# Altium integrated library Linear Technology Power Management uModule Regulators.IntLib: 166 symbols (part 15 of 67)
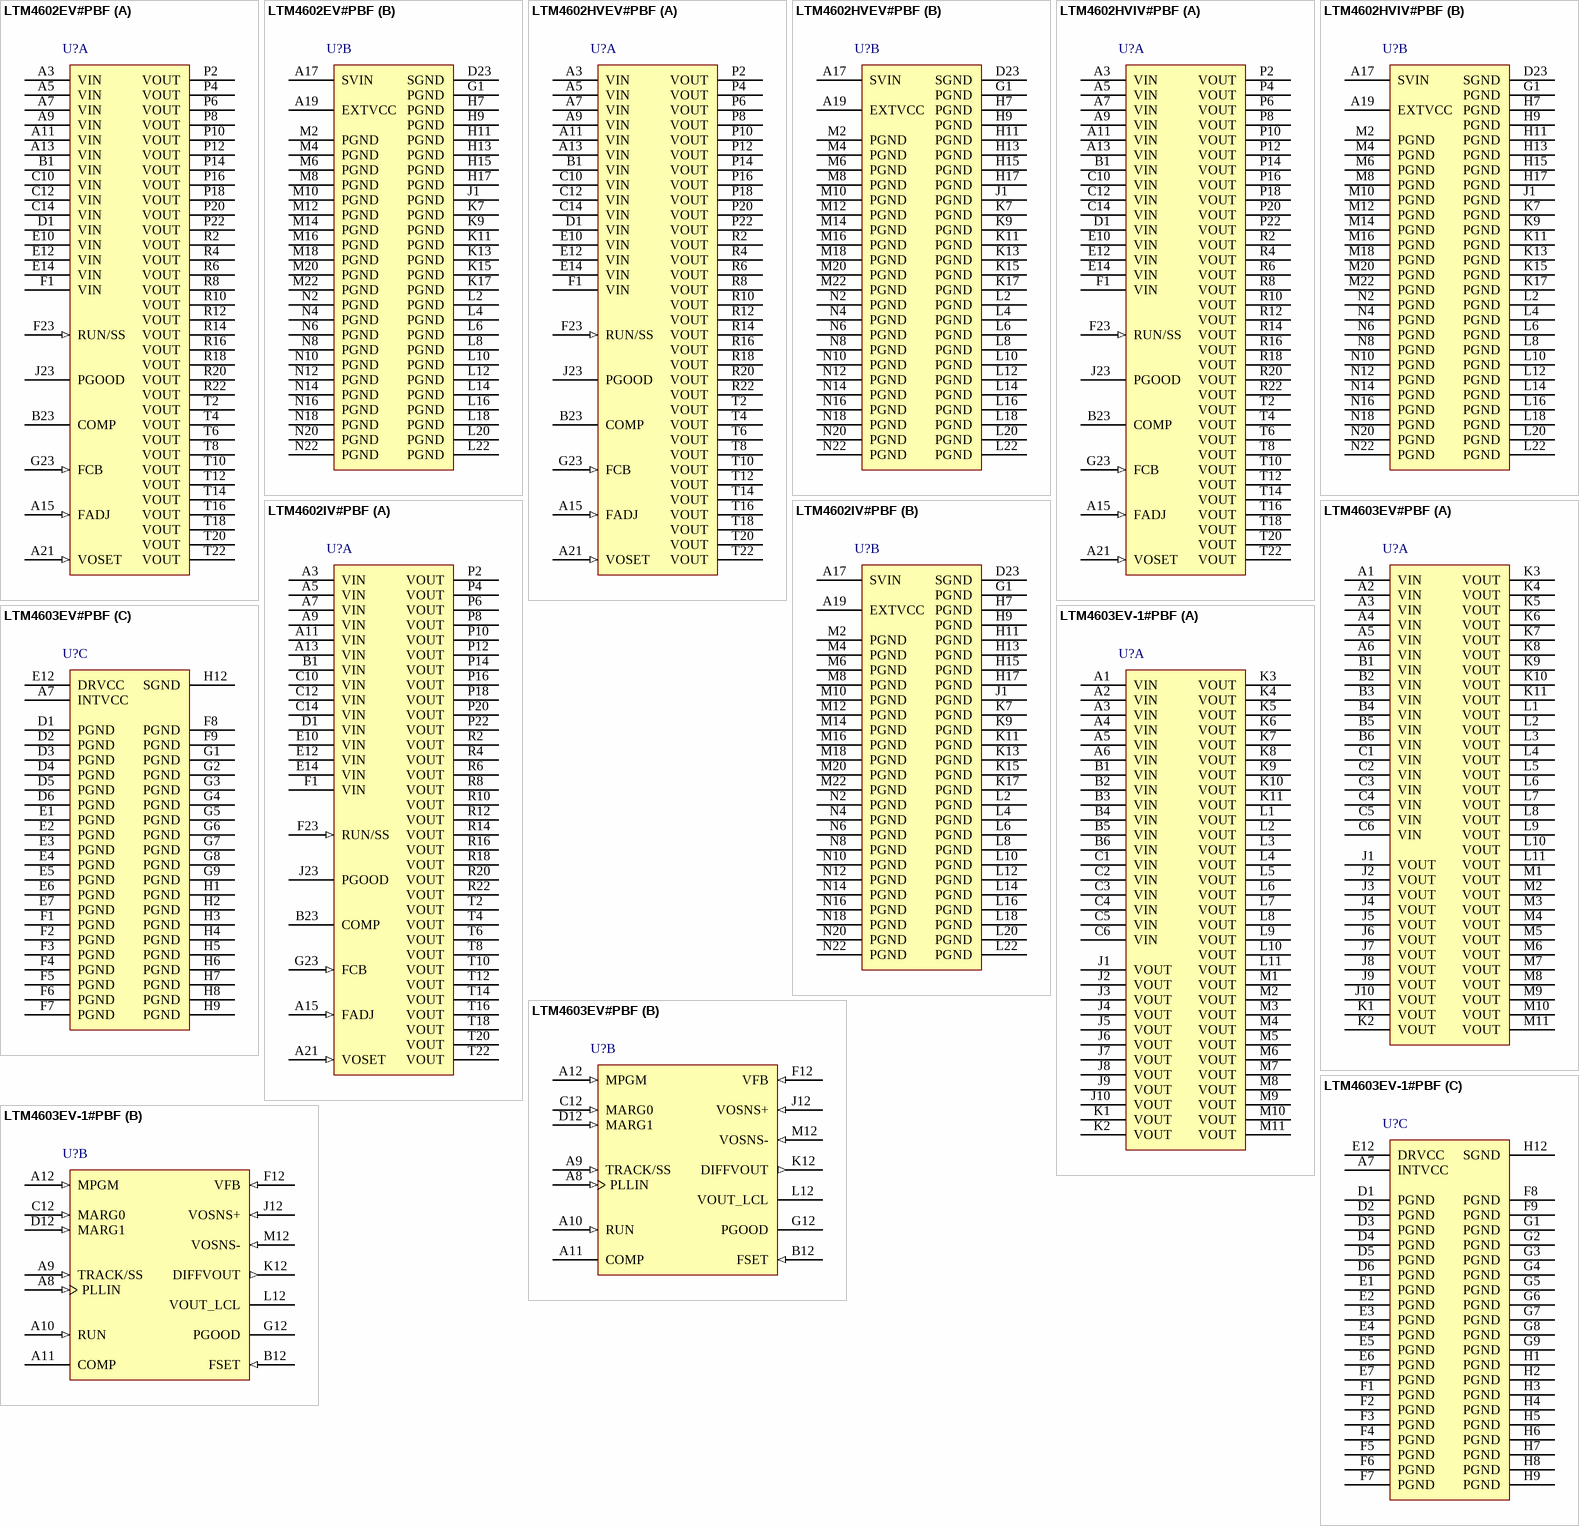
[diagram p41: symbols LTM4602EV#PBF to LTM4603EV-1#PBF]

## LTM4603EV-1#PBF
designator U?
20 V, 6 A DC/DC uModule Regulator with PLL, Output Tracking and Margining, 118-pin LGA, -40 to 85 degC, Pb-Free, Tray; Manufacturer: Linear Technology; PartNumber: LTM4603EV-1#PBF; Extended Temp: E, I; Frequency Sync Range: 700kHz - 1.3MHz; Frequency(kHz): 1000; Ishutdown(uA): 22; Isupply(mA): 3.8; Number of Outputs: 1; Output Current(A): 6; Switch Current(A): 9; Synchronous: yes; Topology: Buck; Vin Max(V): 20; Vin Min(V): 4.5; Vout Max(V): 5; Vout Min(V): 0.6; DatasheetVersion: Rev. B; PackageVersion: Rev. B, 01/2013; PackageReference: LGA-118; PackageDescription: 118-Pin LGA, Body 15 x 15 mm, Pitch 1.27 mm; Supplier 1: Digi-Key; Supplier Part Number 1: LTM4603EV-1#PBF-ND; Supplier 2: Farnell; Supplier Part Number 2: 1710870; Supplier 3: Newark; Supplier Part Number 3: 57M0665; Packing: Tray; RoHS: TRUE; Tracking: yes; Mounting Technology: Surface Mount; Code_JEDEC: MO-222; ComponentLink1Description: Manufacturer URL; ComponentLink1URL: http://www.linear.com/; ComponentLink2Description: Datasheet; ComponentLink2URL: http://cds.linear.com/docs/en/datasheet/4603fb.pdf; ComponentLink3Description: Package Specification; ComponentLink3URL: http://cds.linear.com/docs/en/packaging/05081801_B_lga118.pdf
footprint LT-LGA-118-15000X15000_V (LGA, 118-Leads, Body 15x15mm, 1.27mm)
part A pins: A1 VIN (power) "Power Input Pins. Apply input voltage between these pins and PGND pins. Recommend placing input decoupling capacitance directly between VIN pins and PGND pins.", A2 VIN (power) "Power Input Pins. Apply input voltage between these pins and PGND pins. Recommend placing input decoupling capacitance directly between VIN pins and PGND pins.", A3 VIN (power) "Power Input Pins. Apply input voltage between these pins and PGND pins. Recommend placing input decoupling capacitance directly between VIN pins and PGND pins.", A4 VIN (power) "Power Input Pins. Apply input voltage between these pins and PGND pins. Recommend placing input decoupling capacitance directly between VIN pins and PGND pins.", A5 VIN (power) "Power Input Pins. Apply input voltage between these pins and PGND pins. Recommend placing input decoupling capacitance directly between VIN pins and PGND pins.", A6 VIN (power) "Power Input Pins. Apply input voltage between these pins and PGND pins. Recommend placing input decoupling capacitance directly between VIN pins and PGND pins.", B1 VIN (power) "Power Input Pins. Apply input voltage between these pins and PGND pins. Recommend placing input decoupling capacitance directly between VIN pins and PGND pins.", B2 VIN (power) "Power Input Pins. Apply input voltage between these pins and PGND pins. Recommend placing input decoupling capacitance directly between VIN pins and PGND pins.", B3 VIN (power) "Power Input Pins. Apply input voltage between these pins and PGND pins. Recommend placing input decoupling capacitance directly between VIN pins and PGND pins.", B4 VIN (power) "Power Input Pins. Apply input voltage between these pins and PGND pins. Recommend placing input decoupling capacitance directly between VIN pins and PGND pins.", B5 VIN (power) "Power Input Pins. Apply input voltage between these pins and PGND pins. Recommend placing input decoupling capacitance directly between VIN pins and PGND pins.", B6 VIN (power) "Power Input Pins. Apply input voltage between these pins and PGND pins. Recommend placing input decoupling capacitance directly between VIN pins and PGND pins.", C1 VIN (power) "Power Input Pins. Apply input voltage between these pins and PGND pins. Recommend placing input decoupling capacitance directly between VIN pins and PGND pins.", C2 VIN (power) "Power Input Pins. Apply input voltage between these pins and PGND pins. Recommend placing input decoupling capacitance directly between VIN pins and PGND pins.", C3 VIN (power) "Power Input Pins. Apply input voltage between these pins and PGND pins. Recommend placing input decoupling capacitance directly between VIN pins and PGND pins.", C4 VIN (power) "Power Input Pins. Apply input voltage between these pins and PGND pins. Recommend placing input decoupling capacitance directly between VIN pins and PGND pins.", C5 VIN (power) "Power Input Pins. Apply input voltage between these pins and PGND pins. Recommend placing input decoupling capacitance directly between VIN pins and PGND pins.", C6 VIN (power) "Power Input Pins. Apply input voltage between these pins and PGND pins. Recommend placing input decoupling capacitance directly between VIN pins and PGND pins.", J1 VOUT (power) "Power Output Pins. Apply output load between these pins and PGND pins. Recommend placing output decoupling capacitance directly between these pins and PGND pins.", J2 VOUT (power) "Power Output Pins. Apply output load between these pins and PGND pins. Recommend placing output decoupling capacitance directly between these pins and PGND pins.", J3 VOUT (power) "Power Output Pins. Apply output load between these pins and PGND pins. Recommend placing output decoupling capacitance directly between these pins and PGND pins.", J4 VOUT (power) "Power Output Pins. Apply output load between these pins and PGND pins. Recommend placing output decoupling capacitance directly between these pins and PGND pins.", J5 VOUT (power) "Power Output Pins. Apply output load between these pins and PGND pins. Recommend placing output decoupling capacitance directly between these pins and PGND pins.", J6 VOUT (power) "Power Output Pins. Apply output load between these pins and PGND pins. Recommend placing output decoupling capacitance directly between these pins and PGND pins.", J7 VOUT (power) "Power Output Pins. Apply output load between these pins and PGND pins. Recommend placing output decoupling capacitance directly between these pins and PGND pins.", J8 VOUT (power) "Power Output Pins. Apply output load between these pins and PGND pins. Recommend placing output decoupling capacitance directly between these pins and PGND pins.", J9 VOUT (power) "Power Output Pins. Apply output load between these pins and PGND pins. Recommend placing output decoupling capacitance directly between these pins and PGND pins.", J10 VOUT (power) "Power Output Pins. Apply output load between these pins and PGND pins. Recommend placing output decoupling capacitance directly between these pins and PGND pins.", K1 VOUT (power) "Power Output Pins. Apply output load between these pins and PGND pins. Recommend placing output decoupling capacitance directly between these pins and PGND pins.", K2 VOUT (power) "Power Output Pins. Apply output load between these pins and PGND pins. Recommend placing output decoupling capacitance directly between these pins and PGND pins.", K3 VOUT (power) "Power Output Pins. Apply output load between these pins and PGND pins. Recommend placing output decoupling capacitance directly between these pins and PGND pins.", K4 VOUT (power) "Power Output Pins. Apply output load between these pins and PGND pins. Recommend placing output decoupling capacitance directly between these pins and PGND pins.", K5 VOUT (power) "Power Output Pins. Apply output load between these pins and PGND pins. Recommend placing output decoupling capacitance directly between these pins and PGND pins.", K6 VOUT (power) "Power Output Pins. Apply output load between these pins and PGND pins. Recommend placing output decoupling capacitance directly between these pins and PGND pins.", K7 VOUT (power) "Power Output Pins. Apply output load between these pins and PGND pins. Recommend placing output decoupling capacitance directly between these pins and PGND pins.", K8 VOUT (power) "Power Output Pins. Apply output load between these pins and PGND pins. Recommend placing output decoupling capacitance directly between these pins and PGND pins.", K9 VOUT (power) "Power Output Pins. Apply output load between these pins and PGND pins. Recommend placing output decoupling capacitance directly between these pins and PGND pins.", K10 VOUT (power) "Power Output Pins. Apply output load between these pins and PGND pins. Recommend placing output decoupling capacitance directly between these pins and PGND pins.", K11 VOUT (power) "Power Output Pins. Apply output load between these pins and PGND pins. Recommend placing output decoupling capacitance directly between these pins and PGND pins.", L1 VOUT (power) "Power Output Pins. Apply output load between these pins and PGND pins. Recommend placing output decoupling capacitance directly between these pins and PGND pins.", L2 VOUT (power) "Power Output Pins. Apply output load between these pins and PGND pins. Recommend placing output decoupling capacitance directly between these pins and PGND pins.", L3 VOUT (power) "Power Output Pins. Apply output load between these pins and PGND pins. Recommend placing output decoupling capacitance directly between these pins and PGND pins.", L4 VOUT (power) "Power Output Pins. Apply output load between these pins and PGND pins. Recommend placing output decoupling capacitance directly between these pins and PGND pins.", L5 VOUT (power) "Power Output Pins. Apply output load between these pins and PGND pins. Recommend placing output decoupling capacitance directly between these pins and PGND pins.", L6 VOUT (power) "Power Output Pins. Apply output load between these pins and PGND pins. Recommend placing output decoupling capacitance directly between these pins and PGND pins.", L7 VOUT (power) "Power Output Pins. Apply output load between these pins and PGND pins. Recommend placing output decoupling capacitance directly between these pins and PGND pins.", L8 VOUT (power) "Power Output Pins. Apply output load between these pins and PGND pins. Recommend placing output decoupling capacitance directly between these pins and PGND pins.", L9 VOUT (power) "Power Output Pins. Apply output load between these pins and PGND pins. Recommend placing output decoupling capacitance directly between these pins and PGND pins.", L10 VOUT (power) "Power Output Pins. Apply output load between these pins and PGND pins. Recommend placing output decoupling capacitance directly between these pins and PGND pins.", L11 VOUT (power) "Power Output Pins. Apply output load between these pins and PGND pins. Recommend placing output decoupling capacitance directly between these pins and PGND pins.", M1 VOUT (power) "Power Output Pins. Apply output load between these pins and PGND pins. Recommend placing output decoupling capacitance directly between these pins and PGND pins.", M2 VOUT (power) "Power Output Pins. Apply output load between these pins and PGND pins. Recommend placing output decoupling capacitance directly between these pins and PGND pins.", M3 VOUT (power) "Power Output Pins. Apply output load between these pins and PGND pins. Recommend placing output decoupling capacitance directly between these pins and PGND pins.", M4 VOUT (power) "Power Output Pins. Apply output load between these pins and PGND pins. Recommend placing output decoupling capacitance directly between these pins and PGND pins.", M5 VOUT (power) "Power Output Pins. Apply output load between these pins and PGND pins. Recommend placing output decoupling capacitance directly between these pins and PGND pins.", M6 VOUT (power) "Power Output Pins. Apply output load between these pins and PGND pins. Recommend placing output decoupling capacitance directly between these pins and PGND pins.", M7 VOUT (power) "Power Output Pins. Apply output load between these pins and PGND pins. Recommend placing output decoupling capacitance directly between these pins and PGND pins.", M8 VOUT (power) "Power Output Pins. Apply output load between these pins and PGND pins. Recommend placing output decoupling capacitance directly between these pins and PGND pins.", M9 VOUT (power) "Power Output Pins. Apply output load between these pins and PGND pins. Recommend placing output decoupling capacitance directly between these pins and PGND pins.", M10 VOUT (power) "Power Output Pins. Apply output load between these pins and PGND pins. Recommend placing output decoupling capacitance directly between these pins and PGND pins.", M11 VOUT (power) "Power Output Pins. Apply output load between these pins and PGND pins. Recommend placing output decoupling capacitance directly between these pins and PGND pins."
part B pins: A8 PLLIN (in) "External Clock Synchronization Input to the Phase Detector. This pin is internally terminated to SGND with a 50k resistor. Apply a clock with a high level above 2V and below INTVCC. See the Applications Information section.", A9 TRACK/SS (in) "Output Voltage Tracking and Soft- Start Pin. When the module is confi gured as a master output, then a soft-start capacitor is placed on this pin to ground to control the master ramp rate.", A10 RUN (in) "Run Control Pin. A voltage above 1.9V will turn on the module, and when below 1V, will turn off the module.", A11 COMP "Current Control Threshold and Error Amplifier Compensation Point. The current comparator threshold increases with this control voltage.", A12 MPGM (in) "Programmable Margining Input.", B12 FSET (in) "Frequency Set Internally to 1MHz. An external resistor can be placed from this pin to ground to increase frequency. This pin can be decoupled with a 1000pF capacitor. See Applications Information for frequency adjustment.", C12 MARG0 (in) "This pin is the LSB logic input for the margining function. Together with the MARG1 pin it will determine if margin high, margin low or no margin state is applied. The pin has an internal pull-down resistor of 50k. See the (See Datasheet)", D12 MARG1 (in) "This pin is the MSB logic input for the margining function. Together with the MARG0 pin will determine if margin high, margin low or no margin state is applied. The pin has an internal pull-down resistor of 50k. See (See Datasheet)", F12 VFB (in) "The Negative Input of the Error Amplifier. Internally, this pin is connected to VOUT_LCL with a 60.4k precision resistor. Different output voltages can be programmed with an additional resistor between VFB and SGND pins. See (See Datasheet)", G12 PGOOD (oc) "Output Voltage Power Good Indicator. Open-drain logic output that is pulled to ground when the output voltage is not within +/-10% of the regulation point, after a 25us power bad mask timer expires.", J12 VOSNS+ (in) "(+) Input to the Remote Sense Amplifier. This pin connects to the output remote sense point. The remote sense amplifier is used for VOUT =< 3.3V. Tie to ground if not used.", K12 DIFFVOUT (out) "Output of the Remote Sense Amplifier. This pin connects to the VOUT_LCL pin. Leave floating if remote sense amplifier is not used.", L12 VOUT_LCL "VOUT connects directly to this pin to bypass the remote sense amplifier, or DIFFVOUT connects to this pin when remote sense amplifier is used.", M12 VOSNS- (in) "(-) Input to the Remote Sense Amplifier. This pin connects to the ground remote sense point. The remote sense amplifier is used for VOUT =< 3.3V. Tie to INTVCC if not used."
part C pins: A7 INTVCC (power) "This pin is for additional decoupling of the 5V internal regulator.", D1 PGND (power) "Power ground pins for both input and output returns.", D2 PGND (power) "Power ground pins for both input and output returns.", D3 PGND (power) "Power ground pins for both input and output returns.", D4 PGND (power) "Power ground pins for both input and output returns.", D5 PGND (power) "Power ground pins for both input and output returns.", D6 PGND (power) "Power ground pins for both input and output returns.", E1 PGND (power) "Power ground pins for both input and output returns.", E2 PGND (power) "Power ground pins for both input and output returns.", E3 PGND (power) "Power ground pins for both input and output returns.", E4 PGND (power) "Power ground pins for both input and output returns.", E5 PGND (power) "Power ground pins for both input and output returns.", E6 PGND (power) "Power ground pins for both input and output returns.", E7 PGND (power) "Power ground pins for both input and output returns.", E12 DRVCC (power) "This pin normally connects to INTVCC for powering the internal MOSFET drivers. This pin can be biased up to 6V from an external supply with about 50mA capability, or an external circuit shown in Figure 16. This improves (See Datasheet)", F1 PGND (power) "Power ground pins for both input and output returns.", F2 PGND (power) "Power ground pins for both input and output returns.", F3 PGND (power) "Power ground pins for both input and output returns.", F4 PGND (power) "Power ground pins for both input and output returns.", F5 PGND (power) "Power ground pins for both input and output returns.", F6 PGND (power) "Power ground pins for both input and output returns.", F7 PGND (power) "Power ground pins for both input and output returns.", F8 PGND (power) "Power ground pins for both input and output returns.", F9 PGND (power) "Power ground pins for both input and output returns.", G1 PGND (power) "Power ground pins for both input and output returns.", G2 PGND (power) "Power ground pins for both input and output returns.", G3 PGND (power) "Power ground pins for both input and output returns.", G4 PGND (power) "Power ground pins for both input and output returns.", G5 PGND (power) "Power ground pins for both input and output returns.", G6 PGND (power) "Power ground pins for both input and output returns.", G7 PGND (power) "Power ground pins for both input and output returns.", G8 PGND (power) "Power ground pins for both input and output returns.", G9 PGND (power) "Power ground pins for both input and output returns.", H1 PGND (power) "Power ground pins for both input and output returns.", H2 PGND (power) "Power ground pins for both input and output returns.", H3 PGND (power) "Power ground pins for both input and output returns.", H4 PGND (power) "Power ground pins for both input and output returns.", H5 PGND (power) "Power ground pins for both input and output returns.", H6 PGND (power) "Power ground pins for both input and output returns.", H7 PGND (power) "Power ground pins for both input and output returns.", H8 PGND (power) "Power ground pins for both input and output returns.", H9 PGND (power) "Power ground pins for both input and output returns.", H12 SGND (power) "Signal Ground. This pin connects to PGND at output capacitor point."

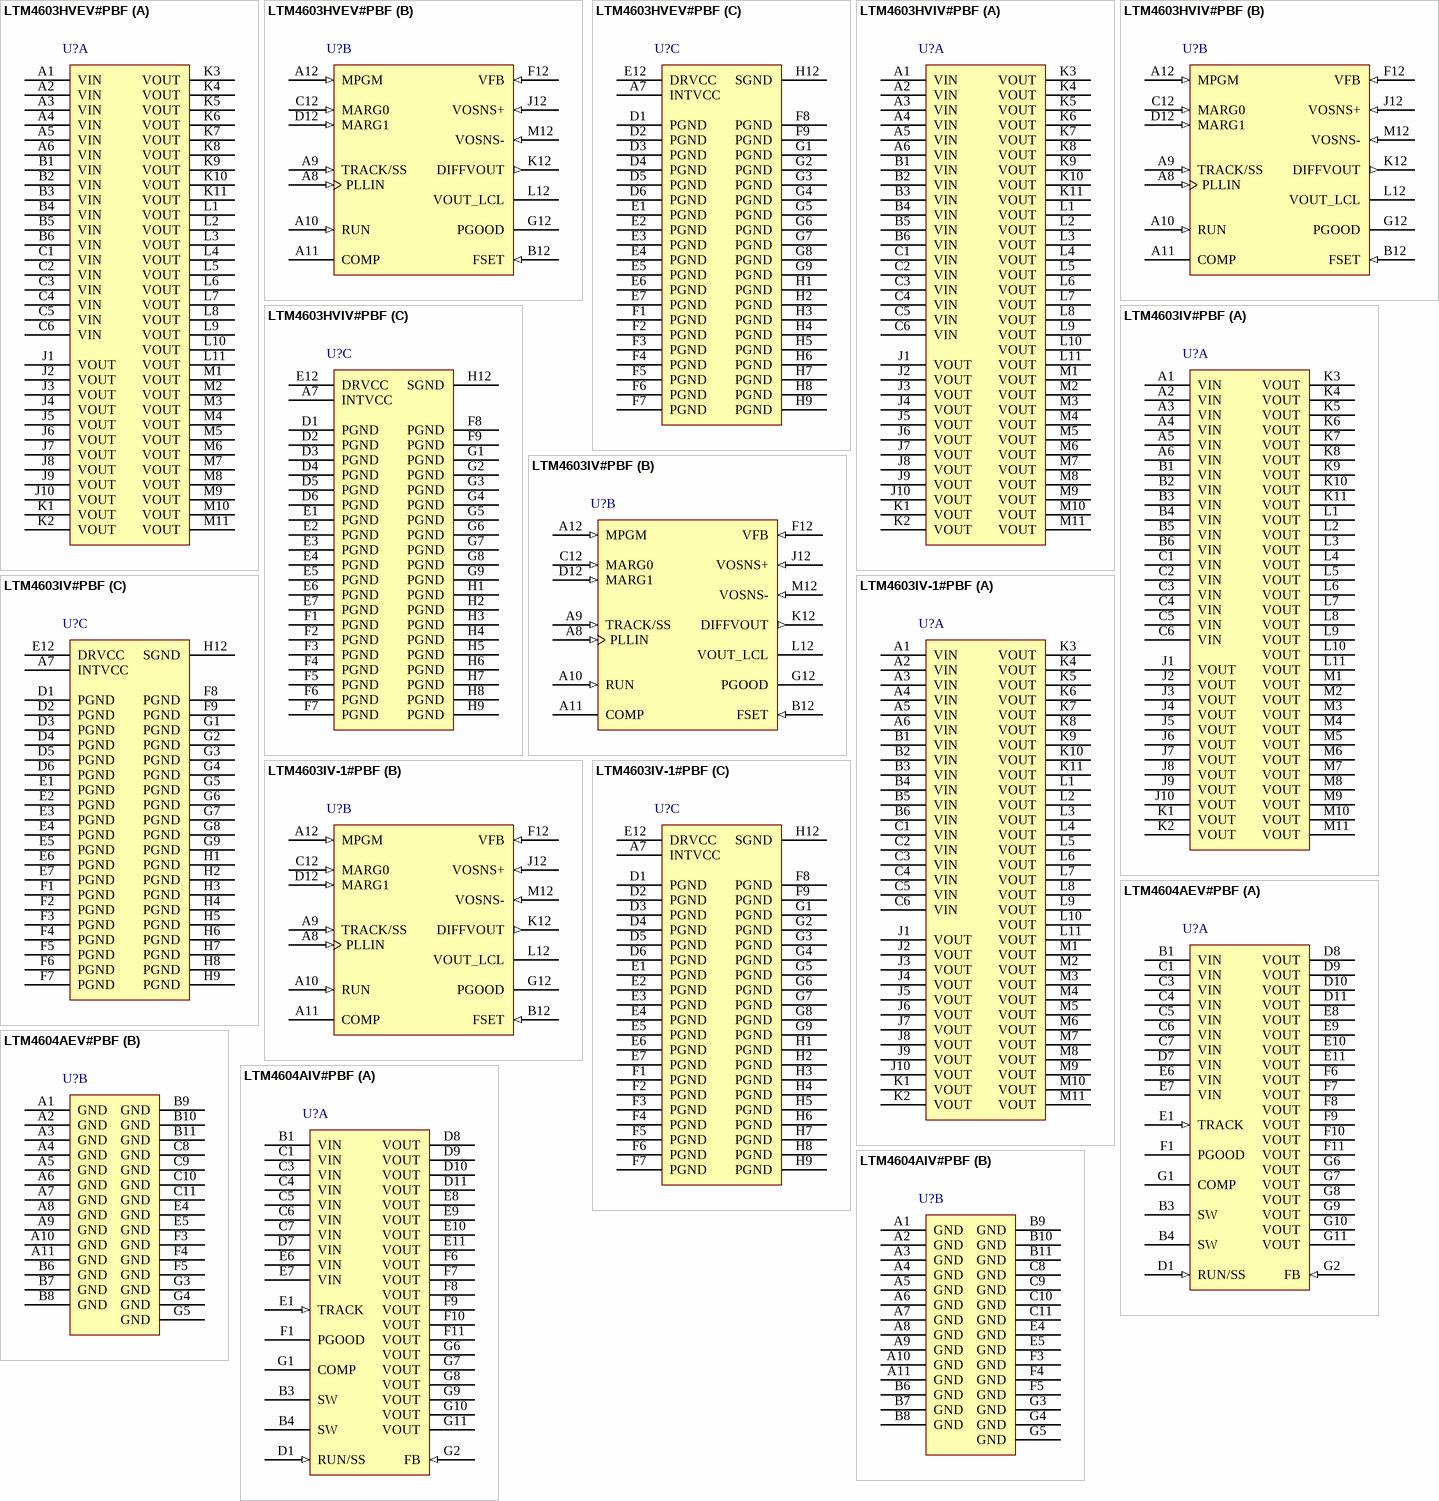
[diagram p6: symbols LTM4603HVEV#PBF to LTM4604AIV#PBF]

## LTM4603HVEV#PBF
designator U?
6 A, 28 VIN DC/DC uModule with PLL, Output Tracking and Margining, 118-pin LGA, -40 to 85 degC, Pb-Free, Tray; Manufacturer: Linear Technology; PartNumber: LTM4603HVEV#PBF; Extended Temp: E, I; Frequency Sync Range: 700kHz - 1.3MHz; Frequency(kHz): 1000; Ishutdown(uA): 22; Isupply(mA): 25; Number of Outputs: 1; Output Current(A): 6; Switch Current(A): 8; Synchronous: yes; Topology: Buck; Vin Max(V): 28; Vin Min(V): 4.5; Vout Max(V): 5; Vout Min(V): 0.6; PackageVersion: Rev. B, 01/2013; PackageReference: LGA-118; PackageDescription: 118-Pin LGA, Body 15 x 15 mm, Pitch 1.27 mm; Supplier 1: Digi-Key; Supplier Part Number 1: LTM4603HVEV#PBF-ND; Supplier 2: Farnell; Supplier Part Number 2: 1710881; Supplier 3: Newark; Supplier Part Number 3: 57M0667; Packing: Tray; RoHS: TRUE; Tracking: yes; Mounting Technology: Surface Mount; Code_JEDEC: MO-222; ComponentLink1Description: Manufacturer URL; ComponentLink1URL: http://www.linear.com/; ComponentLink2Description: Datasheet; ComponentLink2URL: http://cds.linear.com/docs/en/datasheet/4603hvf.pdf; ComponentLink3Description: Package Specification; ComponentLink3URL: http://cds.linear.com/docs/en/packaging/05081801_B_lga118.pdf
footprint LT-LGA-118-15000X15000_V (LGA, 118-Leads, Body 15x15mm, 1.27mm)
part A pins: A1 VIN (power) "Power Input Pins. Apply input voltage between these pins and PGND pins. Recommend placing input decoupling capacitance directly between VIN pins and PGND pins.", A2 VIN (power) "Power Input Pins. Apply input voltage between these pins and PGND pins. Recommend placing input decoupling capacitance directly between VIN pins and PGND pins.", A3 VIN (power) "Power Input Pins. Apply input voltage between these pins and PGND pins. Recommend placing input decoupling capacitance directly between VIN pins and PGND pins.", A4 VIN (power) "Power Input Pins. Apply input voltage between these pins and PGND pins. Recommend placing input decoupling capacitance directly between VIN pins and PGND pins.", A5 VIN (power) "Power Input Pins. Apply input voltage between these pins and PGND pins. Recommend placing input decoupling capacitance directly between VIN pins and PGND pins.", A6 VIN (power) "Power Input Pins. Apply input voltage between these pins and PGND pins. Recommend placing input decoupling capacitance directly between VIN pins and PGND pins.", B1 VIN (power) "Power Input Pins. Apply input voltage between these pins and PGND pins. Recommend placing input decoupling capacitance directly between VIN pins and PGND pins.", B2 VIN (power) "Power Input Pins. Apply input voltage between these pins and PGND pins. Recommend placing input decoupling capacitance directly between VIN pins and PGND pins.", B3 VIN (power) "Power Input Pins. Apply input voltage between these pins and PGND pins. Recommend placing input decoupling capacitance directly between VIN pins and PGND pins.", B4 VIN (power) "Power Input Pins. Apply input voltage between these pins and PGND pins. Recommend placing input decoupling capacitance directly between VIN pins and PGND pins.", B5 VIN (power) "Power Input Pins. Apply input voltage between these pins and PGND pins. Recommend placing input decoupling capacitance directly between VIN pins and PGND pins.", B6 VIN (power) "Power Input Pins. Apply input voltage between these pins and PGND pins. Recommend placing input decoupling capacitance directly between VIN pins and PGND pins.", C1 VIN (power) "Power Input Pins. Apply input voltage between these pins and PGND pins. Recommend placing input decoupling capacitance directly between VIN pins and PGND pins.", C2 VIN (power) "Power Input Pins. Apply input voltage between these pins and PGND pins. Recommend placing input decoupling capacitance directly between VIN pins and PGND pins.", C3 VIN (power) "Power Input Pins. Apply input voltage between these pins and PGND pins. Recommend placing input decoupling capacitance directly between VIN pins and PGND pins.", C4 VIN (power) "Power Input Pins. Apply input voltage between these pins and PGND pins. Recommend placing input decoupling capacitance directly between VIN pins and PGND pins.", C5 VIN (power) "Power Input Pins. Apply input voltage between these pins and PGND pins. Recommend placing input decoupling capacitance directly between VIN pins and PGND pins.", C6 VIN (power) "Power Input Pins. Apply input voltage between these pins and PGND pins. Recommend placing input decoupling capacitance directly between VIN pins and PGND pins.", J1 VOUT (power) "Power Output Pins. Apply output load between these pins and PGND pins. Recommend placing output decoupling capacitance directly between these pins and PGND pins. Review the figure below.", J2 VOUT (power) "Power Output Pins. Apply output load between these pins and PGND pins. Recommend placing output decoupling capacitance directly between these pins and PGND pins. Review the figure below.", J3 VOUT (power) "Power Output Pins. Apply output load between these pins and PGND pins. Recommend placing output decoupling capacitance directly between these pins and PGND pins. Review the figure below.", J4 VOUT (power) "Power Output Pins. Apply output load between these pins and PGND pins. Recommend placing output decoupling capacitance directly between these pins and PGND pins. Review the figure below.", J5 VOUT (power) "Power Output Pins. Apply output load between these pins and PGND pins. Recommend placing output decoupling capacitance directly between these pins and PGND pins. Review the figure below.", J6 VOUT (power) "Power Output Pins. Apply output load between these pins and PGND pins. Recommend placing output decoupling capacitance directly between these pins and PGND pins. Review the figure below.", J7 VOUT (power) "Power Output Pins. Apply output load between these pins and PGND pins. Recommend placing output decoupling capacitance directly between these pins and PGND pins. Review the figure below.", J8 VOUT (power) "Power Output Pins. Apply output load between these pins and PGND pins. Recommend placing output decoupling capacitance directly between these pins and PGND pins. Review the figure below.", J9 VOUT (power) "Power Output Pins. Apply output load between these pins and PGND pins. Recommend placing output decoupling capacitance directly between these pins and PGND pins. Review the figure below.", J10 VOUT (power) "Power Output Pins. Apply output load between these pins and PGND pins. Recommend placing output decoupling capacitance directly between these pins and PGND pins. Review the figure below.", K1 VOUT (power) "Power Output Pins. Apply output load between these pins and PGND pins. Recommend placing output decoupling capacitance directly between these pins and PGND pins. Review the figure below.", K2 VOUT (power) "Power Output Pins. Apply output load between these pins and PGND pins. Recommend placing output decoupling capacitance directly between these pins and PGND pins. Review the figure below.", K3 VOUT (power) "Power Output Pins. Apply output load between these pins and PGND pins. Recommend placing output decoupling capacitance directly between these pins and PGND pins. Review the figure below.", K4 VOUT (power) "Power Output Pins. Apply output load between these pins and PGND pins. Recommend placing output decoupling capacitance directly between these pins and PGND pins. Review the figure below.", K5 VOUT (power) "Power Output Pins. Apply output load between these pins and PGND pins. Recommend placing output decoupling capacitance directly between these pins and PGND pins. Review the figure below.", K6 VOUT (power) "Power Output Pins. Apply output load between these pins and PGND pins. Recommend placing output decoupling capacitance directly between these pins and PGND pins. Review the figure below.", K7 VOUT (power) "Power Output Pins. Apply output load between these pins and PGND pins. Recommend placing output decoupling capacitance directly between these pins and PGND pins. Review the figure below.", K8 VOUT (power) "Power Output Pins. Apply output load between these pins and PGND pins. Recommend placing output decoupling capacitance directly between these pins and PGND pins. Review the figure below.", K9 VOUT (power) "Power Output Pins. Apply output load between these pins and PGND pins. Recommend placing output decoupling capacitance directly between these pins and PGND pins. Review the figure below.", K10 VOUT (power) "Power Output Pins. Apply output load between these pins and PGND pins. Recommend placing output decoupling capacitance directly between these pins and PGND pins. Review the figure below.", K11 VOUT (power) "Power Output Pins. Apply output load between these pins and PGND pins. Recommend placing output decoupling capacitance directly between these pins and PGND pins. Review the figure below.", L1 VOUT (power) "Power Output Pins. Apply output load between these pins and PGND pins. Recommend placing output decoupling capacitance directly between these pins and PGND pins. Review the figure below.", L2 VOUT (power) "Power Output Pins. Apply output load between these pins and PGND pins. Recommend placing output decoupling capacitance directly between these pins and PGND pins. Review the figure below.", L3 VOUT (power) "Power Output Pins. Apply output load between these pins and PGND pins. Recommend placing output decoupling capacitance directly between these pins and PGND pins. Review the figure below.", L4 VOUT (power) "Power Output Pins. Apply output load between these pins and PGND pins. Recommend placing output decoupling capacitance directly between these pins and PGND pins. Review the figure below.", L5 VOUT (power) "Power Output Pins. Apply output load between these pins and PGND pins. Recommend placing output decoupling capacitance directly between these pins and PGND pins. Review the figure below.", L6 VOUT (power) "Power Output Pins. Apply output load between these pins and PGND pins. Recommend placing output decoupling capacitance directly between these pins and PGND pins. Review the figure below.", L7 VOUT (power) "Power Output Pins. Apply output load between these pins and PGND pins. Recommend placing output decoupling capacitance directly between these pins and PGND pins. Review the figure below.", L8 VOUT (power) "Power Output Pins. Apply output load between these pins and PGND pins. Recommend placing output decoupling capacitance directly between these pins and PGND pins. Review the figure below.", L9 VOUT (power) "Power Output Pins. Apply output load between these pins and PGND pins. Recommend placing output decoupling capacitance directly between these pins and PGND pins. Review the figure below.", L10 VOUT (power) "Power Output Pins. Apply output load between these pins and PGND pins. Recommend placing output decoupling capacitance directly between these pins and PGND pins. Review the figure below.", L11 VOUT (power) "Power Output Pins. Apply output load between these pins and PGND pins. Recommend placing output decoupling capacitance directly between these pins and PGND pins. Review the figure below.", M1 VOUT (power) "Power Output Pins. Apply output load between these pins and PGND pins. Recommend placing output decoupling capacitance directly between these pins and PGND pins. Review the figure below.", M2 VOUT (power) "Power Output Pins. Apply output load between these pins and PGND pins. Recommend placing output decoupling capacitance directly between these pins and PGND pins. Review the figure below.", M3 VOUT (power) "Power Output Pins. Apply output load between these pins and PGND pins. Recommend placing output decoupling capacitance directly between these pins and PGND pins. Review the figure below.", M4 VOUT (power) "Power Output Pins. Apply output load between these pins and PGND pins. Recommend placing output decoupling capacitance directly between these pins and PGND pins. Review the figure below.", M5 VOUT (power) "Power Output Pins. Apply output load between these pins and PGND pins. Recommend placing output decoupling capacitance directly between these pins and PGND pins. Review the figure below.", M6 VOUT (power) "Power Output Pins. Apply output load between these pins and PGND pins. Recommend placing output decoupling capacitance directly between these pins and PGND pins. Review the figure below.", M7 VOUT (power) "Power Output Pins. Apply output load between these pins and PGND pins. Recommend placing output decoupling capacitance directly between these pins and PGND pins. Review the figure below.", M8 VOUT (power) "Power Output Pins. Apply output load between these pins and PGND pins. Recommend placing output decoupling capacitance directly between these pins and PGND pins. Review the figure below.", M9 VOUT (power) "Power Output Pins. Apply output load between these pins and PGND pins. Recommend placing output decoupling capacitance directly between these pins and PGND pins. Review the figure below.", M10 VOUT (power) "Power Output Pins. Apply output load between these pins and PGND pins. Recommend placing output decoupling capacitance directly between these pins and PGND pins. Review the figure below.", M11 VOUT (power) "Power Output Pins. Apply output load between these pins and PGND pins. Recommend placing output decoupling capacitance directly between these pins and PGND pins. Review the figure below."
part B pins: A8 PLLIN (in) "External Clock Synchronization Input to the Phase Detector. This pin is internally terminated to SGND with a 50k resistor. Apply a clock above 2V and below INTVCC. See Applications Information.", A9 TRACK/SS (in) "Output Voltage Tracking and Soft- Start Pin. When the module is configured as a master output, then a soft-start capacitor is placed on this pin to ground to control the master ramp rate.", A10 RUN (in) "Run Control Pin. A voltage above 1.9V will turn on the module, and when below 1.9V, will turn off the module. A programmable UVLO function can be accomplished with a resistor from VIN to this pin that has a 5.1V zener to (See Datasheet)", A11 COMP "Current Control Threshold and Error Amplifier Compensation Point. The current comparator threshold increases with this control voltage.", A12 MPGM (in) "Programmable Margining Input.", B12 FSET (in) "Frequency Set Internally to 1MHz. An external resistor can be placed from this pin to ground to increase frequency. This pin can be decoupled with a 1000pF capacitor. See Applications Information for frequency adjustment.", C12 MARG0 (in) "This pin is the LSB logic input for the margining function. Together with the MARG1 pin will determine if margin high, margin low or no margin state is applied. The pin has an internal pull down resistor of 50k. See (See Datasheet)", D12 MARG1 (in) "This pin is the MSB logic input for the margining function. Together with the MARG0 pin will determine if margin high, margin low or no margin state is applied. The pin has an internal pull-down resistor of 50k. See (See Datasheet)", F12 VFB (in) "The Negative Input of the Error Amplifier. Internally, this pin is connected to VOUT_LCL with a 60.4k precision resistor. Different output voltages can be programmed with an additional resistor between VFB and SGND pins. See (See Datasheet)", G12 PGOOD (oc) "Output Voltage Power Good Indicator. Open-drain logic output that is pulled to ground when the output voltage is not within +/-10% of the regulation point, after a 25us power bad mask timer expires.", J12 VOSNS+ (in) "(+) Input to the Remote Sense Amplifier. This pin connects to the output remote sense point. The remote sense amplifier is used for VOUT =<3.3V.", K12 DIFFVOUT (out) "Output of the Remote Sense Amplifier. This pin connects to the VOUT_LCL pin.", L12 VOUT_LCL "VOUT connects directly to this pin to bypass the remote sense amplifier, or DIFFVOUT connects to this pin when remote sense amplifier is used.", M12 VOSNS- (in) "(-) Input to the Remote Sense Amplifier. This pin connects to the ground remote sense point. The remote sense amplifier is used for VOUT =<3.3V"
part C pins: A7 INTVCC (power) "This pin is for additional decoupling of the 5V internal regulator.", D1 PGND (power) "Power ground pins for both input and output returns.", D2 PGND (power) "Power ground pins for both input and output returns.", D3 PGND (power) "Power ground pins for both input and output returns.", D4 PGND (power) "Power ground pins for both input and output returns.", D5 PGND (power) "Power ground pins for both input and output returns.", D6 PGND (power) "Power ground pins for both input and output returns.", E1 PGND (power) "Power ground pins for both input and output returns.", E2 PGND (power) "Power ground pins for both input and output returns.", E3 PGND (power) "Power ground pins for both input and output returns.", E4 PGND (power) "Power ground pins for both input and output returns.", E5 PGND (power) "Power ground pins for both input and output returns.", E6 PGND (power) "Power ground pins for both input and output returns.", E7 PGND (power) "Power ground pins for both input and output returns.", E12 DRVCC (power) "This pin normally connects to INTVCC for powering the internal MOSFET drivers. This pin can be biased up to 6V from an external supply with about 50mA capability, or an external circuit shown in Figure 16. This improves effi (See Datasheet)", F1 PGND (power) "Power ground pins for both input and output returns.", F2 PGND (power) "Power ground pins for both input and output returns.", F3 PGND (power) "Power ground pins for both input and output returns.", F4 PGND (power) "Power ground pins for both input and output returns.", F5 PGND (power) "Power ground pins for both input and output returns.", F6 PGND (power) "Power ground pins for both input and output returns.", F7 PGND (power) "Power ground pins for both input and output returns.", F8 PGND (power) "Power ground pins for both input and output returns.", F9 PGND (power) "Power ground pins for both input and output returns.", G1 PGND (power) "Power ground pins for both input and output returns.", G2 PGND (power) "Power ground pins for both input and output returns.", G3 PGND (power) "Power ground pins for both input and output returns.", G4 PGND (power) "Power ground pins for both input and output returns.", G5 PGND (power) "Power ground pins for both input and output returns.", G6 PGND (power) "Power ground pins for both input and output returns.", G7 PGND (power) "Power ground pins for both input and output returns.", G8 PGND (power) "Power ground pins for both input and output returns.", G9 PGND (power) "Power ground pins for both input and output returns.", H1 PGND (power) "Power ground pins for both input and output returns.", H2 PGND (power) "Power ground pins for both input and output returns.", H3 PGND (power) "Power ground pins for both input and output returns.", H4 PGND (power) "Power ground pins for both input and output returns.", H5 PGND (power) "Power ground pins for both input and output returns.", H6 PGND (power) "Power ground pins for both input and output returns.", H7 PGND (power) "Power ground pins for both input and output returns.", H8 PGND (power) "Power ground pins for both input and output returns.", H9 PGND (power) "Power ground pins for both input and output returns.", H12 SGND (power) "Signal Ground. This pin connects to PGND at output capacitor point."